# EAGLE library part PANSTAMP-LD (library relay-components)
Panstamp Long Distance Board
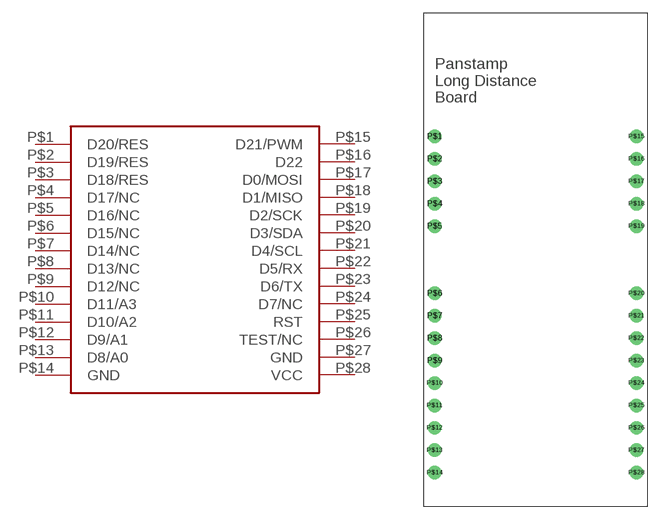
[diagram p1: symbol with the pads of PANSTAMP-LD; footprint PANSTAMP-LD]

Designator prefix -

## PANSTAMP-LD  [PANSTAMP-LD]
P$1  D20/RES
P$2  D19/RES
P$3  D18/RES
P$4  D17/NC
P$5  D16/NC
P$6  D15/NC
P$7  D14/NC
P$8  D13/NC
P$9  D12/NC
P$10  D11/A3
P$11  D10/A2
P$12  D9/A1
P$13  D8/A0
P$14  GND
P$15  D21/PWM
P$16  D22
P$17  D0/MOSI
P$18  D1/MISO
P$19  D2/SCK
P$20  D3/SDA
P$21  D4/SCL
P$22  D5/RX
P$23  D6/TX
P$24  D7/NC
P$25  RST
P$26  TEST/NC
P$27  GND
P$28  VCC

## Footprint PANSTAMP-LD (pad centres in mm)
drill 0.9 pad 1.524: P$1 2.54,43.18; P$2 2.54,40.64; P$3 2.54,38.1; P$4 2.54,35.56; P$5 2.54,33.02; P$6 2.54,25.4; P$7 2.54,22.86; P$8 2.54,20.32; P$9 2.54,17.78; P$10 2.54,15.24; P$11 2.54,12.7; P$12 2.54,10.16; P$13 2.54,7.62; P$14 2.54,5.08; P$15 25.4,43.18; P$16 25.4,40.64; P$17 25.4,38.1; P$18 25.4,35.56; P$19 25.4,33.02; P$20 25.4,25.4; P$21 25.4,22.86; P$22 25.4,20.32; P$23 25.4,17.78; P$24 25.4,15.24; P$25 25.4,12.7; P$26 25.4,10.16; P$27 25.4,7.62; P$28 25.4,5.08